# EAGLE library part PINHD-2X6 (library HelaTronix - Connectors)
PIN HEADER
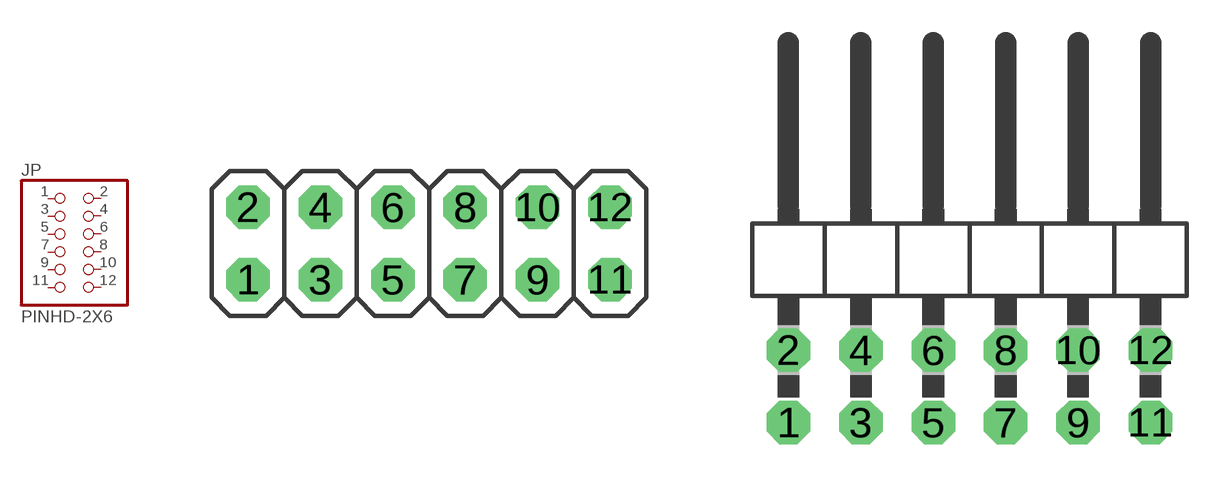
[diagram p2: symbol with the pads of 2X06; footprints 2X06, 2X06/90]

Designator prefix JP

## PINHD-2X6  [2X06]
1  1  pas
2  2  pas
3  3  pas
4  4  pas
5  5  pas
6  6  pas
7  7  pas
8  8  pas
9  9  pas
10  10  pas
11  11  pas
12  12  pas

## PINHD-2X6/90  [2X06/90]
Pads as for 2X06

## PINHD-2X6/ATX (LCSC#: C27524; LCSC_LINK: https://lcsc.com/product-detail/Wire-To-Board-Wire-To-Wire-Connector_BOOMELE-Boom-Precision-Elec-4-2-2-6A_C27524.html; MANUFACTURER: BOOMELE(Boom Precision Elec); MFR#: 4.2-2*6A)  [5569-12A]
Pads as for 2X06

## PINHD-2X6-IDC  [PAK100/2500-12]
Pads as for 2X06

## Footprint 2X06 (pad centres in mm)
PIN HEADER
drill 1.016 octagon: 1 -6.35,-1.27; 2 -6.35,1.27; 3 -3.81,-1.27; 4 -3.81,1.27; 5 -1.27,-1.27; 6 -1.27,1.27; 7 1.27,-1.27; 8 1.27,1.27; 9 3.81,-1.27; 10 3.81,1.27; 11 6.35,-1.27; 12 6.35,1.27

## Footprint 2X06/90 (pad centres in mm)
PIN HEADER
drill 1.016 octagon: 1 -6.35,-6.35; 2 -6.35,-3.81; 3 -3.81,-6.35; 4 -3.81,-3.81; 5 -1.27,-6.35; 6 -1.27,-3.81; 7 1.27,-6.35; 8 1.27,-3.81; 9 3.81,-6.35; 10 3.81,-3.81; 11 6.35,-6.35; 12 6.35,-3.81

## Footprint 5569-12A (pad centres in mm)
ATX Connector
drill 1.8 offset: 1 -10.5,2.1; 2 -10.5,-2.1; 3 -6.3,2.1; 4 -6.3,-2.1; 5 -2.1,2.1; 6 -2.1,-2.1; 7 2.1,2.1; 8 2.1,-2.1; 9 6.3,2.1; 10 6.3,-2.1; 11 10.5,2.1; 12 10.5,-2.1

## Footprint PAK100/2500-12 (pad centres in mm)
3M (TM) Pak 100 4-Wall Header Straight Source: 3M
drill 1 pad 1.422: 1 -6.35,-1.27; 2 -6.35,1.27; 3 -3.81,-1.27; 4 -3.81,1.27; 5 -1.27,-1.27; 6 -1.27,1.27; 7 1.27,-1.27; 8 1.27,1.27; 9 3.81,-1.27; 10 3.81,1.27; 11 6.35,-1.27; 12 6.35,1.27